# Altium schematic symbol library esp32(1).SchLib: 7 symbols
Pins are listed as number, name and electrical type; pins without a type are passive.

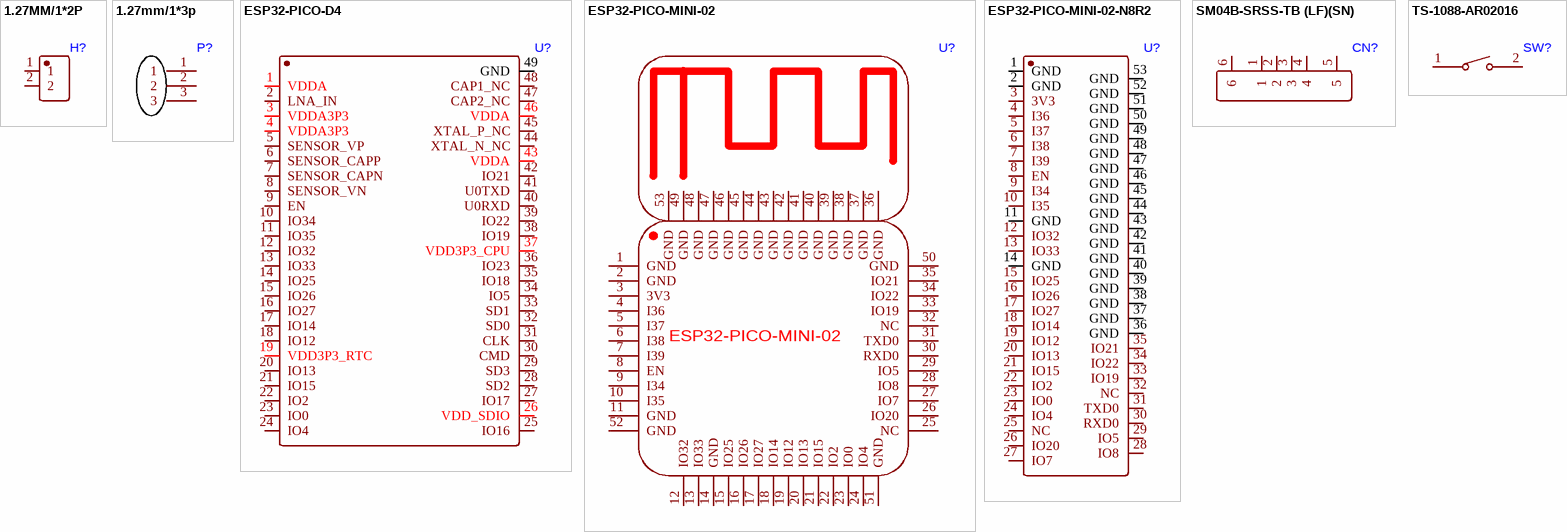
[diagram p0: symbols 1.27MM/1*2P to TS-1088-AR02016]

## 1.27MM/1*2P
designator H?
footprint HDR-TH_2P-P1.27-V-M
pins: 1, 2

## 1.27mm/1*3p
designator P?
footprint HDR-TH_3P-P1.27-V-M-1
pins: 1, 2, 3

## ESP32-PICO-D4
designator U?
footprint QFN-48_L7.0-W7.0-P0.50-BL-EP5.4
pins: 1 VDDA, 2 LNA_IN, 3 VDDA3P3, 4 VDDA3P3, 5 SENSOR_VP, 6 SENSOR_CAPP, 7 SENSOR_CAPN, 8 SENSOR_VN, 9 EN, 10 IO34, 11 IO35, 12 IO32, 13 IO33, 14 IO25, 15 IO26, 16 IO27, 17 IO14, 18 IO12, 19 VDD3P3_RTC, 20 IO13, 21 IO15, 22 IO2, 23 IO0, 24 IO4, 25 IO16, 26 VDD_SDIO, 27 IO17, 28 SD2, 29 SD3, 30 CMD, 31 CLK, 32 SD0, 33 SD1, 34 IO5, 35 IO18, 36 IO23, 37 VDD3P3_CPU, 38 IO19, 39 IO22, 40 U0RXD, 41 U0TXD, 42 IO21, 43 VDDA, 44 XTAL_N_NC, 45 XTAL_P_NC, 46 VDDA, 47 CAP2_NC, 48 CAP1_NC, 49 GND

## ESP32-PICO-MINI-02
designator U?
ESP32-PICO-MINI-02
footprint BULETM-SMD_ESP32-PICO-MINI-02-N8R2
pins: 1 GND, 2 GND, 3 3V3, 4 I36, 5 I37, 6 I38, 7 I39, 8 EN, 9 I34, 10 I35, 11 GND, 12 IO32, 13 IO33, 14 GND, 15 IO25, 16 IO26, 17 IO27, 18 IO14, 19 IO12, 20 IO13, 21 IO15, 22 IO2, 23 IO0, 24 IO4, 25 NC, 26 IO20, 27 IO7, 28 IO8, 29 IO5, 30 RXD0, 31 TXD0, 32 NC, 33 IO19, 34 IO22, 35 IO21, 36 GND, 37 GND, 38 GND, 39 GND, 40 GND, 41 GND, 42 GND, 43 GND, 44 GND, 45 GND, 46 GND, 47 GND, 48 GND, 49 GND, 50 GND, 51 GND, 52 GND, 53 GND

## ESP32-PICO-MINI-02-N8R2
designator U?
ESP32-PICO-MINI-02-N8R2
footprint BULETM-SMD_ESP32-PICO-MINI-02-N8R2
pins: 1 GND, 2 GND, 3 3V3, 4 I36, 5 I37, 6 I38, 7 I39, 8 EN, 9 I34, 10 I35, 11 GND, 12 IO32, 13 IO33, 14 GND, 15 IO25, 16 IO26, 17 IO27, 18 IO14, 19 IO12, 20 IO13, 21 IO15, 22 IO2, 23 IO0, 24 IO4, 25 NC, 26 IO20, 27 IO7, 28 IO8, 29 IO5, 30 RXD0, 31 TXD0, 32 NC, 33 IO19, 34 IO22, 35 IO21, 36 GND, 37 GND, 38 GND, 39 GND, 40 GND, 41 GND, 42 GND, 43 GND, 44 GND, 45 GND, 46 GND, 47 GND, 48 GND, 49 GND, 50 GND, 51 GND, 52 GND, 53 GND

## SM04B-SRSS-TB (LF)(SN)
designator CN?
4pin 1mm 插座
footprint CONN-SMD_4P-P1.00_SM04B-SRSS-TB-LF-SN
pins: 1, 2, 3, 4, 5, 6

## TS-1088-AR02016
designator SW?
按键开关
footprint SW-SMD_L4.0-W2.9-LS5.0
pins: 1, 2